# EAGLE library part ADAPROG_PINHD-2X3 (library atmega32u4bb)
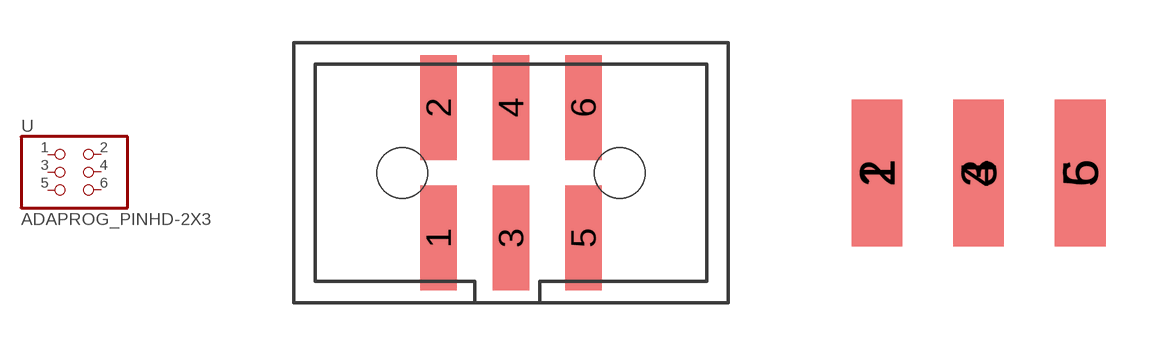
[diagram p3: symbol with the pads of ADAPROG_2X3SMT; footprints ADAPROG_2X3SMT, ADAPROG_2X3EDGE]

Designator prefix -

## ADAPROG_PINHD-2X3  [ADAPROG_2X3SMT]
1  1  pas
2  2  pas
3  3  pas
4  4  pas
5  5  pas
6  6  pas

## ADAPROG_PINHD-2X3E  [ADAPROG_2X3EDGE]
Pads as for ADAPROG_2X3SMT

## ADAPROG_PINHD-2X3THM  [ADAPROG_ISP6]
Pads as for ADAPROG_2X3SMT

## Footprint ADAPROG_2X3SMT (pad centres in mm)
smd 1.27 x 3.683: 1 -2.54,-2.286; 2 -2.54,2.286; 3 0,-2.286; 4 0,2.286; 5 2.54,-2.286; 6 2.54,2.286
hole 1.778 at -3.81,0
hole 1.778 at 3.81,0

## Footprint ADAPROG_2X3EDGE (pad centres in mm)
smd 1.27 x 3.683 bottom: 1 -2.54,0; 3 0,0; 5 2.54,0
smd 1.27 x 3.683: 2 -2.54,0; 4 0,0; 6 2.54,0

## Footprint ADAPROG_ISP6 (pad centres in mm)
drill 1.016 pad 1.778 octagon: 1 -2.54,-1.27; 2 -2.54,1.27; 3 0,-1.27; 4 0,1.27; 5 2.54,-1.27; 6 2.54,1.27